# EAGLE library part WL-OCPT_SERIES_827 (library WL-OCPT)
WL-OCPT DIP-8 Series 827 Characteristics DIP-8 series 827 High isolation voltage Good stability of inner isolation Stable CTR in full operation temperature range Different CTR binnings available High Collector-Emitter voltage Fast switching times Applications Power supplies and chargers Computer and microprocessors Office equipment Instrumental applications and machines Ammeter, Smart Meter <https://www.we-online.com/catalog/media/o707827v209%20WL-OCPT%20DIP8.jpg> Details see: www.we-online.com/catalog/WL-OCPT_DIP_8 <www.we-online.com/catalog/WL-OCPT_DIP_8/?utm_source=eagle_model&utm_medium=description_link&utm_campaign=eisos_eagle> Created by Ella Wu, 2022-11-11 2022 (C) Wurth Elektronik
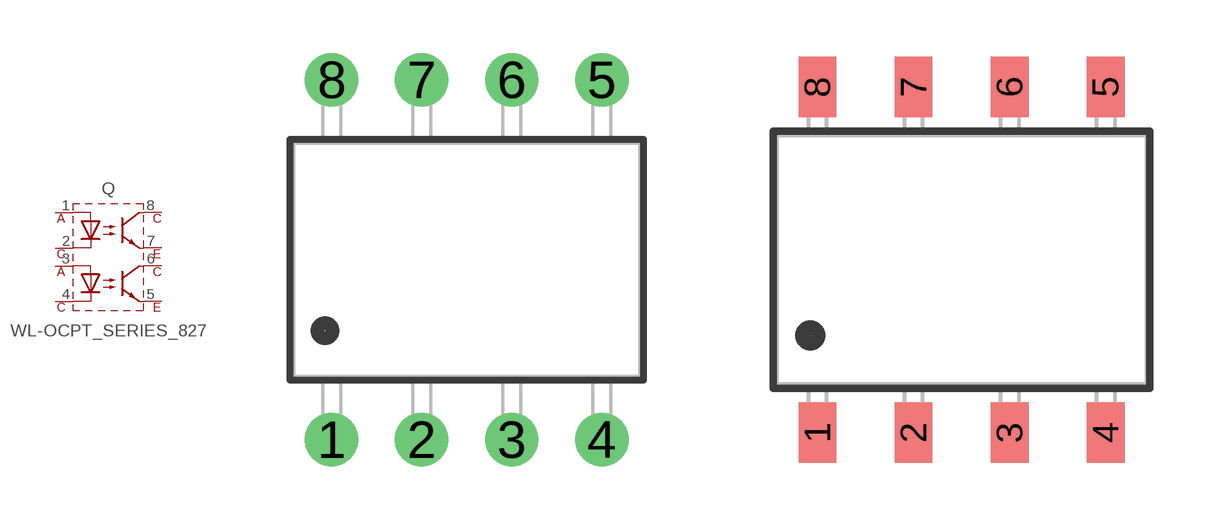
[diagram p0: symbol with the pads of WL-OCPT_DIP8_M-TYPE; footprints WL-OCPT_DIP8_M-TYPE, WL-OCPT_DIP8_SL-TYPE]

Designator prefix Q

## WL-OCPT_SERIES_827_140827181010_DIP8_M-TYPE (CTR-MAX: 400%; CTR-MIN: 130%; DATASHEET-URL: https://www.we-online.com/redexpert/spec/140827181010?ae; IF: 60mA; MOUNT: THT; PART-NUMBER: 140827181010; TC-CTR: IF = 5mA,VCE = 5 V; VALUE: 140827181010; VCE: 80V; VISO: 5000(V(RMS)))  [WL-OCPT_DIP8_M-TYPE]
1  1  pas
2  2  pas
3  3  pas
4  4  pas
5  5  pas
6  6  pas
7  7  pas
8  8  pas

## WL-OCPT_SERIES_827_140827183000_DIP8_SL-TYPE (CTR-MAX: 400%; CTR-MIN: 130%; DATASHEET-URL: https://www.we-online.com/redexpert/spec/140827183000?ae; IF: 60mA; MOUNT: SMT; PART-NUMBER: 140827183000; TC-CTR: IF = 5mA,VCE = 5 V; VALUE: 140827183000; VCE: 80V; VISO: 5000(V(RMS)))  [WL-OCPT_DIP8_SL-TYPE]
Pads as for WL-OCPT_DIP8_M-TYPE

## WL-OCPT_SERIES_827_140827180010_DIP8_STANDARD (CTR-MAX: 400%; CTR-MIN: 130%; DATASHEET-URL: https://www.we-online.com/redexpert/spec/140827180010?ae; IF: 60mA; MOUNT: THT; PART-NUMBER: 140827180010; TC-CTR: IF = 5mA,VCE = 5 V; VALUE: 140827180010; VCE: 80V; VISO: 5000(V(RMS)))  [WL-OCPT_DIP8_STANDARD]
Pads as for WL-OCPT_DIP8_M-TYPE

## WL-OCPT_SERIES_827_140827182000_DIP8_S-TYPE (CTR-MAX: 400%; CTR-MIN: 130%; DATASHEET-URL: https://www.we-online.com/redexpert/spec/140827182000?ae; IF: 60mA; MOUNT: SMT; PART-NUMBER: 140827182000; TC-CTR: IF = 5mA,VCE = 5 V; VALUE: 140827182000; VCE: 80V; VISO: 5000(V(RMS)))  [WL-OCPT_DIP8_S-TYPE]
Pads as for WL-OCPT_DIP8_M-TYPE

## Footprint WL-OCPT_DIP8_M-TYPE (pad centres in mm)
WL-OCPT Optocoupler Phototransistor Size : DIP 8 M-Type, THT, 8pins
drill 1: 1 -3.81,-5.08; 2 -1.27,-5.08; 3 1.27,-5.08; 4 3.81,-5.08; 5 3.81,5.08; 6 1.27,5.08; 7 -1.27,5.08; 8 -3.81,5.08

## Footprint WL-OCPT_DIP8_SL-TYPE (pad centres in mm)
WL-OCPT Optocoupler Phototransistor Size : DIP 8 SL-Type, SMT, 8pins
smd 1 x 1.6: 1 -3.81,-4.575; 2 -1.27,-4.575; 3 1.27,-4.575; 4 3.81,-4.575; 5 3.81,4.575; 6 1.27,4.575; 7 -1.27,4.575; 8 -3.81,4.575

## Footprint WL-OCPT_DIP8_STANDARD (pad centres in mm)
WL-OCPT Optocoupler Phototransistor Size : DIP 8 STANDARD, THT, 8pins
drill 1: 1 -3.81,-3.813; 2 -1.27,-3.813; 3 1.27,-3.813; 4 3.81,-3.813; 5 3.81,3.81; 6 1.27,3.81; 7 -1.27,3.81; 8 -3.81,3.81

## Footprint WL-OCPT_DIP8_S-TYPE (pad centres in mm)
WL-OCPT Optocoupler Phototransistor Size : DIP 8 S-Type, SMT, 8pins
smd 1 x 1.6: 1 -3.81,-4.575; 2 -1.27,-4.575; 3 1.27,-4.575; 4 3.81,-4.575; 5 3.81,4.575; 6 1.27,4.575; 7 -1.27,4.575; 8 -3.81,4.575